# Altium footprint library КУН038.PcbLib: 1 footprints
Each footprint in its own frame and in the unit in brackets; x right, y up, seen from the top. Pads: shape width x height; smd on the part's side, far side on the other; paste and mask are expansions set on the pad; w line width, h text height; cw(c..) or ccw(c..) is an arc to the next point about the centre after c.
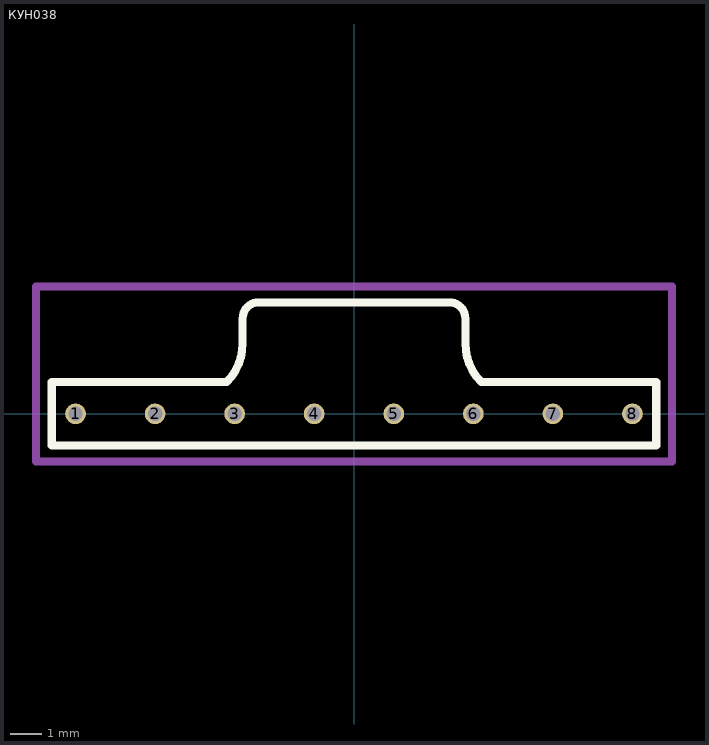
[diagram p0: the footprint, top view; thin cyan lines are the x and y axes]

## КУН038 [mm]
pads (8):
  round 0.65 hole 0.45: 1(-8.75,0) 2(-6.25,0) 3(-3.75,0) 4(-1.25,0) 5(1.25,0) 6(3.75,0) 7(6.25,0) 8(8.75,0)
Top Overlay:
  lines w0.254: -9.5,-1 -9.5,1 -4,1 ccw(c-5.207,2.207) -3.5,2.207 -3.5,3 cw(c-3,3) -3,3.5 3,3.5 cw(c3,3) 3.5,3 3.5,2.207 ccw(c5.207,2.207) 4,1 9.5,1 9.5,-1 -9.5,-1
Mechanical 1:
  lines w0.254: -10,-1.5 -10,4 10,4 10,-1.5 -10,-1.5